# Altium footprint library micro-fujitsu.PCBLIB: 28 footprints (part 2 of 2)
Each footprint in its own frame and in the unit in brackets; x right, y up, seen from the top. Pads: shape width x height; smd on the part's side, far side on the other; paste and mask are expansions set on the pad; w line width, h text height; cw(c..) or ccw(c..) is an arc to the next point about the centre after c.
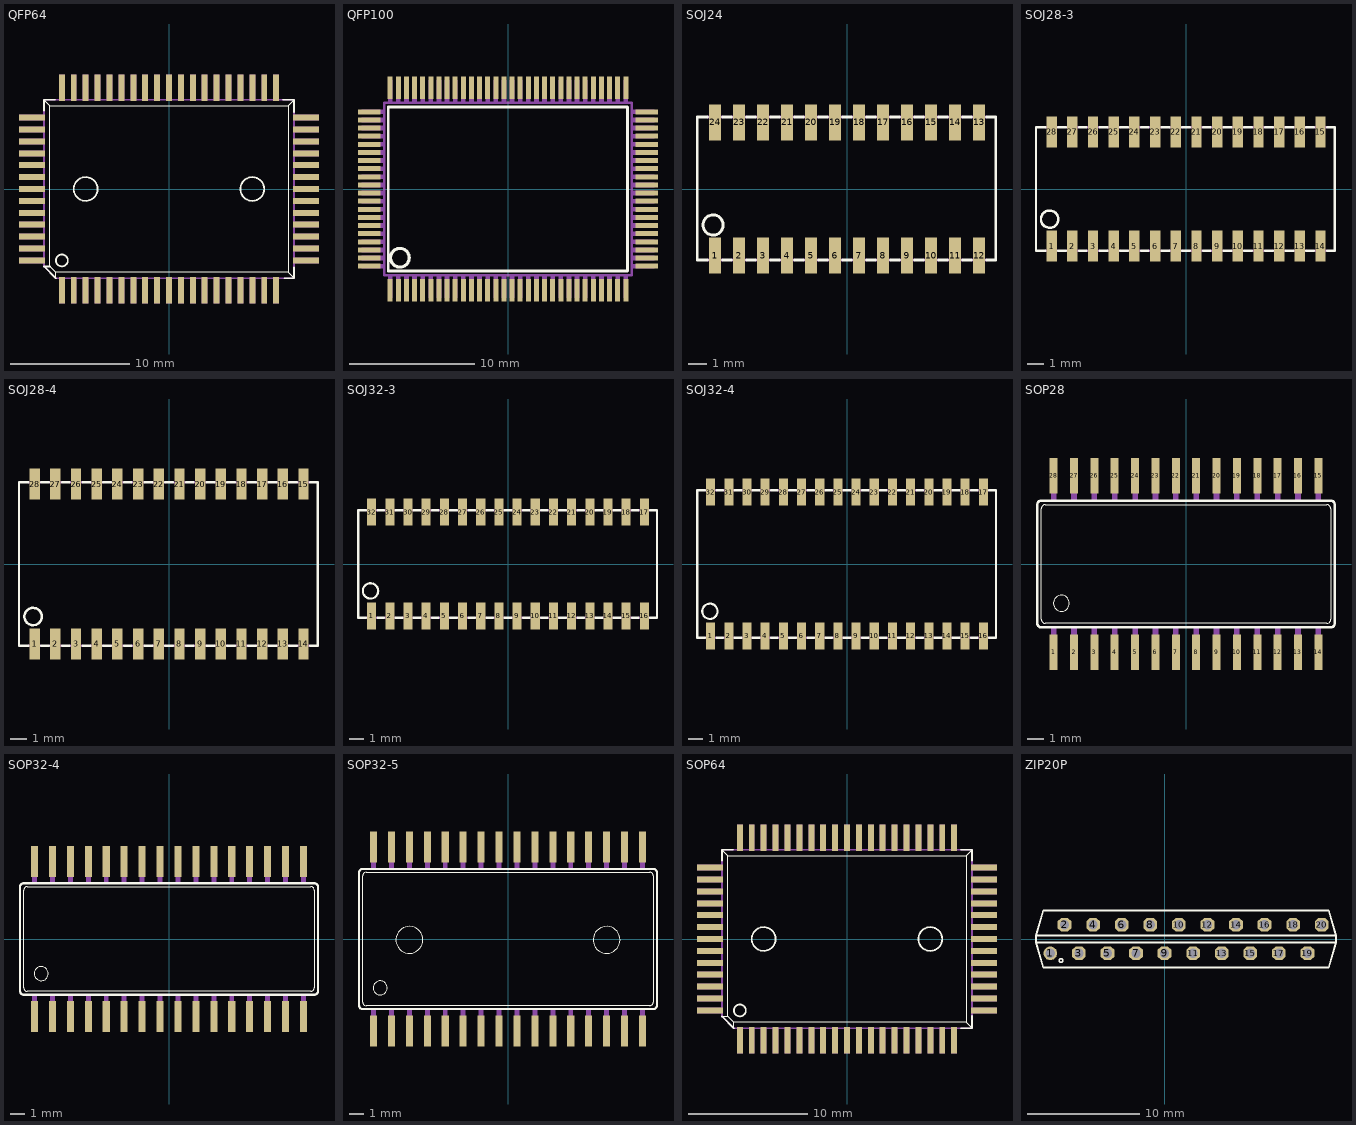
[diagram p1: the footprints below, top view; thin cyan lines are the x and y axes]

## QFP64 [mm]
pads (64):
  rect 0.5x2.2 smd: 1(-9,-8.5) 2(-8,-8.5) 3(-7,-8.5) 4(-6,-8.5) 5(-5,-8.5) 6(-4,-8.5) 7(-3,-8.5) 8(-2,-8.5) 9(-1,-8.5) 10(0,-8.5) 11(1,-8.5) 12(2,-8.5) 13(3,-8.5) 14(4,-8.5) 15(5,-8.5) 16(6,-8.5) 17(7,-8.5) 18(8,-8.5) 19(9,-8.5) 33(9,8.5) 34(8,8.5) 35(7,8.5) 36(6,8.5) 37(5,8.5) 38(4,8.5) 39(3,8.5) 40(2,8.5) 41(1,8.5) 42(0,8.5) 43(-1,8.5) 44(-2,8.5) 45(-3,8.5) 46(-4,8.5) 47(-5,8.5) 48(-6,8.5) 49(-7,8.5) 50(-8,8.5) 51(-9,8.5)
  rect 2.2x0.5 smd: 20(11.5,-6) 21(11.5,-5) 22(11.5,-4) 23(11.5,-3) 24(11.5,-2) 25(11.5,-1) 26(11.5,0) 27(11.5,1) 28(11.5,2) 29(11.5,3) 30(11.5,4) 31(11.5,5) 32(11.5,6) 52(-11.5,6) 53(-11.5,5) 54(-11.5,4) 55(-11.5,3) 56(-11.5,2) 57(-11.5,1) 58(-11.5,0) 59(-11.5,-1) 60(-11.5,-2) 61(-11.5,-3) 62(-11.5,-4) 63(-11.5,-5) 64(-11.5,-6)
Top Overlay:
  circle w0.152: c-9,-6 r0.5
  circle w0.152: c7,0 r1
  circle w0.152: c-7,0 r1
  lines w0.051: -10.5,7.5 -10,7 ; -9.5,-7.5 -9.5,-7 ; 10.5,-7.5 10,-7 ; 10.5,7.5 10,7 ; -10,7 10,7 ; -10,7 -10,-6.5 -9.5,-7 ; -9.5,-7 10,-7 ; 10,-7 10,7
  lines w0.152: -10.5,6.581 -10.5,7.5 -9.566,7.5 ; -10,-6.5 -10.5,-6.5 -9.5,-7.5 ; 9.566,7.5 10.5,7.5 10.5,6.47 ; 9.677,-7.5 10.5,-7.5 10.5,-6.597
Mechanical 16:
  rectangle: -9.25,7.55 -8.75,9.6
  rectangle: -8.25,7.55 -7.75,9.6
  rectangle: -7.25,7.55 -6.75,9.6
  rectangle: -6.25,7.55 -5.75,9.6
  rectangle: -5.25,7.55 -4.75,9.6
  rectangle: -4.25,7.55 -3.75,9.6
  rectangle: -3.25,7.55 -2.75,9.6
  rectangle: -2.25,7.55 -1.75,9.6
  rectangle: -1.25,7.55 -0.75,9.6
  rectangle: -0.25,7.55 0.25,9.6
  rectangle: 0.75,7.55 1.25,9.6
  rectangle: 1.75,7.55 2.25,9.6
  rectangle: 2.75,7.55 3.25,9.6
  rectangle: 3.75,7.55 4.25,9.6
  rectangle: 4.75,7.55 5.25,9.6
  rectangle: 5.75,7.55 6.25,9.6
  rectangle: 6.75,7.55 7.25,9.6
  rectangle: 7.75,7.55 8.25,9.6
  rectangle: 8.75,7.55 9.25,9.6
  rectangle: 10.55,4.75 12.6,5.25
  rectangle: 10.55,5.75 12.6,6.25
  rectangle: 10.55,3.75 12.6,4.25
  rectangle: 10.55,2.75 12.6,3.25
  rectangle: 10.55,1.75 12.6,2.25
  rectangle: 10.55,0.75 12.6,1.25
  rectangle: 10.55,-0.25 12.6,0.25
  rectangle: 10.55,-1.25 12.6,-0.75
  rectangle: 10.55,-2.25 12.6,-1.75
  rectangle: 10.55,-3.25 12.6,-2.75
  rectangle: 10.55,-4.25 12.6,-3.75
  rectangle: 10.55,-5.25 12.6,-4.75
  rectangle: 10.55,-6.25 12.6,-5.75
  rectangle: 8.75,-9.6 9.25,-7.55
  rectangle: 7.75,-9.6 8.25,-7.55
  rectangle: 6.75,-9.6 7.25,-7.55
  rectangle: 5.75,-9.6 6.25,-7.55
  rectangle: 4.75,-9.6 5.25,-7.55
  rectangle: 3.75,-9.6 4.25,-7.55
  rectangle: 2.75,-9.6 3.25,-7.55
  rectangle: 1.75,-9.6 2.25,-7.55
  rectangle: 0.75,-9.6 1.25,-7.55
  rectangle: -0.25,-9.6 0.25,-7.55
  rectangle: -1.25,-9.6 -0.75,-7.55
  rectangle: -2.25,-9.6 -1.75,-7.55
  rectangle: -3.25,-9.6 -2.75,-7.55
  rectangle: -4.25,-9.6 -3.75,-7.55
  rectangle: -5.25,-9.6 -4.75,-7.55
  rectangle: -6.25,-9.6 -5.75,-7.55
  rectangle: -7.25,-9.6 -6.75,-7.55
  rectangle: -8.25,-9.6 -7.75,-7.55
  rectangle: -12.6,5.75 -10.55,6.25
  rectangle: -12.6,4.75 -10.55,5.25
  rectangle: -12.6,3.75 -10.55,4.25
  rectangle: -12.6,2.75 -10.55,3.25
  rectangle: -12.6,1.75 -10.55,2.25
  rectangle: -12.6,0.75 -10.55,1.25
  rectangle: -12.6,-0.25 -10.55,0.25
  rectangle: -12.6,-1.25 -10.55,-0.75
  rectangle: -12.6,-2.25 -10.55,-1.75
  rectangle: -12.6,-3.25 -10.55,-2.75
  rectangle: -12.6,-4.25 -10.55,-3.75
  rectangle: -12.6,-5.25 -10.55,-4.75
  rectangle: -12.6,-6.25 -10.55,-5.75
  rectangle: -9.25,-9.6 -8.75,-7.55
  lines w0.051: -10.5,-6.5 -10,-6.5 ; -9.5,-7.5 -9.5,-7
  lines w0.152: -10.5,-6.5 -9.5,-7.5 10.5,-7.5 10.5,7.5 -10.5,7.5 -10.5,-6.5

## QFP100 [mm]
pads (100):
  rect 0.4x1.8 smd: 1(-9.425,-8.1) 2(-8.775,-8.1) 3(-8.125,-8.1) 4(-7.475,-8.1) 5(-6.825,-8.1) 6(-6.175,-8.1) 7(-5.525,-8.1) 8(-4.875,-8.1) 9(-4.225,-8.1) 10(-3.575,-8.1) 11(-2.925,-8.1) 12(-2.275,-8.1) 13(-1.625,-8.1) 14(-0.975,-8.1) 15(-0.325,-8.1) 16(0.325,-8.1) 17(0.975,-8.1) 18(1.625,-8.1) 19(2.275,-8.1) 20(2.925,-8.1) 21(3.575,-8.1) 22(4.225,-8.1) 23(4.875,-8.1) 24(5.525,-8.1) 25(6.175,-8.1) 26(6.825,-8.1) 27(7.475,-8.1) 28(8.125,-8.1) 29(8.775,-8.1) 30(9.425,-8.1) 51(9.425,8.1) 52(8.775,8.1) 53(8.125,8.1) 54(7.475,8.1) 55(6.825,8.1) 56(6.175,8.1) 57(5.525,8.1) 58(4.875,8.1) 59(4.225,8.1) 60(3.575,8.1) 61(2.925,8.1) 62(2.275,8.1) 63(1.625,8.1) 64(0.975,8.1) 65(0.325,8.1) 66(-0.325,8.1) 67(-0.975,8.1) 68(-1.625,8.1) 69(-2.275,8.1) 70(-2.925,8.1) 71(-3.575,8.1) 72(-4.225,8.1) 73(-4.875,8.1) 74(-5.525,8.1) 75(-6.175,8.1) 76(-6.825,8.1) 77(-7.475,8.1) 78(-8.125,8.1) 79(-8.775,8.1) 80(-9.425,8.1)
  rect 1.8x0.4 smd: 31(11.1,-6.175) 32(11.1,-5.525) 33(11.1,-4.875) 34(11.1,-4.225) 35(11.1,-3.575) 36(11.1,-2.925) 37(11.1,-2.275) 38(11.1,-1.625) 39(11.1,-0.975) 40(11.1,-0.325) 41(11.1,0.325) 42(11.1,0.975) 43(11.1,1.625) 44(11.1,2.275) 45(11.1,2.925) 46(11.1,3.575) 47(11.1,4.225) 48(11.1,4.875) 49(11.1,5.525) 50(11.1,6.175) 81(-11.1,6.175) 82(-11.1,5.525) 83(-11.1,4.875) 84(-11.1,4.225) 85(-11.1,3.575) 86(-11.1,2.925) 87(-11.1,2.275) 88(-11.1,1.625) 89(-11.1,0.975) 90(-11.1,0.325) 91(-11.1,-0.325) 92(-11.1,-0.975) 93(-11.1,-1.625) 94(-11.1,-2.275) 95(-11.1,-2.925) 96(-11.1,-3.575) 97(-11.1,-4.225) 98(-11.1,-4.875) 99(-11.1,-5.525) 100(-11.1,-6.175)
Top Overlay:
  circle w0.254: c-8.65,-5.5 r0.75
  lines w0.203: -9.57,-6.56 9.56,-6.56 9.56,6.56 -9.57,6.56 -9.57,-6.56
Mechanical 16:
  rectangle: -9.615,-8.72 -9.235,-6.95
  rectangle: 9.95,-6.365 11.72,-5.985
  rectangle: -8.965,-8.72 -8.585,-6.95
  rectangle: -8.315,-8.72 -7.935,-6.95
  rectangle: -7.665,-8.72 -7.285,-6.95
  rectangle: -7.015,-8.72 -6.635,-6.95
  rectangle: -6.365,-8.72 -5.985,-6.95
  rectangle: -5.715,-8.72 -5.335,-6.95
  rectangle: -5.065,-8.72 -4.685,-6.95
  rectangle: -4.415,-8.72 -4.035,-6.95
  rectangle: -3.765,-8.72 -3.385,-6.95
  rectangle: -3.115,-8.72 -2.735,-6.95
  rectangle: -2.465,-8.72 -2.085,-6.95
  rectangle: -1.815,-8.72 -1.435,-6.95
  rectangle: -1.165,-8.72 -0.785,-6.95
  rectangle: -0.515,-8.72 -0.135,-6.95
  rectangle: 0.135,-8.72 0.515,-6.95
  rectangle: 0.785,-8.72 1.165,-6.95
  rectangle: 1.435,-8.72 1.815,-6.95
  rectangle: 2.085,-8.72 2.465,-6.95
  rectangle: 2.735,-8.72 3.115,-6.95
  rectangle: 3.385,-8.72 3.765,-6.95
  rectangle: 4.035,-8.72 4.415,-6.95
  rectangle: 4.685,-8.72 5.065,-6.95
  rectangle: 5.335,-8.72 5.715,-6.95
  rectangle: 5.985,-8.72 6.365,-6.95
  rectangle: 6.635,-8.72 7.015,-6.95
  rectangle: 7.285,-8.72 7.665,-6.95
  rectangle: 7.935,-8.72 8.315,-6.95
  rectangle: 8.585,-8.72 8.965,-6.95
  rectangle: 9.235,-8.72 9.615,-6.95
  rectangle: 9.95,-5.715 11.72,-5.335
  rectangle: 9.95,-5.065 11.72,-4.685
  rectangle: 9.95,-4.415 11.72,-4.035
  rectangle: 9.95,-3.765 11.72,-3.385
  rectangle: 9.95,-3.115 11.72,-2.735
  rectangle: 9.95,-2.465 11.72,-2.085
  rectangle: 9.95,-1.815 11.72,-1.435
  rectangle: 9.95,-1.165 11.72,-0.785
  rectangle: 9.95,-0.515 11.72,-0.135
  rectangle: 9.95,0.135 11.72,0.515
  rectangle: 9.95,0.785 11.72,1.165
  rectangle: 9.95,1.435 11.72,1.815
  rectangle: 9.95,2.085 11.72,2.465
  rectangle: 9.95,2.735 11.72,3.115
  rectangle: 9.95,3.385 11.72,3.765
  rectangle: 9.95,4.035 11.72,4.415
  rectangle: 9.95,4.685 11.72,5.065
  rectangle: 9.95,5.335 11.72,5.715
  rectangle: 9.95,5.985 11.72,6.365
  rectangle: 9.235,6.95 9.615,8.72
  rectangle: 8.585,6.95 8.965,8.72
  rectangle: 7.935,6.95 8.315,8.72
  rectangle: 7.285,6.95 7.665,8.72
  rectangle: 6.635,6.95 7.015,8.72
  rectangle: 5.985,6.95 6.365,8.72
  rectangle: 5.335,6.95 5.715,8.72
  rectangle: 4.685,6.95 5.065,8.72
  rectangle: 4.035,6.95 4.415,8.72
  rectangle: 3.385,6.95 3.765,8.72
  rectangle: 2.735,6.95 3.115,8.72
  rectangle: 2.085,6.95 2.465,8.72
  rectangle: 1.435,6.95 1.815,8.72
  rectangle: 0.785,6.95 1.165,8.72
  rectangle: 0.135,6.95 0.515,8.72
  rectangle: -0.515,6.95 -0.135,8.72
  rectangle: -1.165,6.95 -0.785,8.72
  rectangle: -1.815,6.95 -1.435,8.72
  rectangle: -2.465,6.95 -2.085,8.72
  rectangle: -3.115,6.95 -2.735,8.72
  rectangle: -3.765,6.95 -3.385,8.72
  rectangle: -4.415,6.95 -4.035,8.72
  rectangle: -5.065,6.95 -4.685,8.72
  rectangle: -5.715,6.95 -5.335,8.72
  rectangle: -6.365,6.95 -5.985,8.72
  rectangle: -7.015,6.95 -6.635,8.72
  rectangle: -7.665,6.95 -7.285,8.72
  rectangle: -8.315,6.95 -7.935,8.72
  rectangle: -8.965,6.95 -8.585,8.72
  rectangle: -9.615,6.95 -9.235,8.72
  rectangle: -11.72,5.985 -9.95,6.365
  rectangle: -11.72,5.335 -9.95,5.715
  rectangle: -11.72,4.685 -9.95,5.065
  rectangle: -11.72,4.035 -9.95,4.415
  rectangle: -11.72,3.385 -9.95,3.765
  rectangle: -11.72,2.735 -9.95,3.115
  rectangle: -11.72,2.085 -9.95,2.465
  rectangle: -11.72,1.435 -9.95,1.815
  rectangle: -11.72,0.785 -9.95,1.165
  rectangle: -11.72,0.135 -9.95,0.515
  rectangle: -11.72,-0.515 -9.95,-0.135
  rectangle: -11.72,-1.165 -9.95,-0.785
  rectangle: -11.72,-1.815 -9.95,-1.435
  rectangle: -11.72,-2.465 -9.95,-2.085
  rectangle: -11.72,-3.115 -9.95,-2.735
  rectangle: -11.72,-3.765 -9.95,-3.385
  rectangle: -11.72,-4.415 -9.95,-4.035
  rectangle: -11.72,-5.065 -9.95,-4.685
  rectangle: -11.72,-5.715 -9.95,-5.335
  rectangle: -11.72,-6.365 -9.95,-5.985
  lines w0.203: -9.9,-6.9 9.9,-6.9 9.9,6.9 -9.9,6.9 -9.9,-6.9

## SOJ24 [mil]
pads (24):
  rect 25x75 smd: 1(-275,-139) 2(-225,-139) 3(-175,-139) 4(-125,-139) 5(-75,-139) 6(-25,-139) 7(25,-139) 8(75,-139) 9(125,-139) 10(175,-139) 11(225,-139) 12(275,-139) 13(275,139) 14(225,139) 15(175,139) 16(125,139) 17(75,139) 18(25,139) 19(-25,139) 20(-75,139) 21(-125,139) 22(-175,139) 23(-225,139) 24(-275,139)
Top Overlay:
  circle w6: c-279,-75 r21
  lines w6: -291,-148 -312,-148 -312,150 -291,150 ; -259,-148 -241,-148 ; -259,150 -241,150 ; -209,-148 -191,-148 ; -209,150 -191,150 ; -159,-148 -141,-148 ; -159,150 -141,150 ; -109,-148 -91,-148 ; -109,150 -91,150 ; -59,-148 -41,-148 ; -59,150 -41,150 ; -9,-148 9,-148 ; -9,150 9,150 ; 41,-148 59,-148 ; 41,150 59,150 ; 91,-148 109,-148 ; 91,150 109,150 ; 141,-148 159,-148 ; 141,150 159,150 ; 191,-148 209,-148 ; 191,150 209,150 ; 241,-148 259,-148 ; 241,150 259,150 ; 291,-148 310,-148 310,150 291,150
Mechanical 16:
  rectangle: 265,152 285,172
  rectangle: 268,122 282,152
  rectangle: 215,152 235,172
  rectangle: 218,122 232,152
  rectangle: 165,152 185,172
  rectangle: 168,122 182,152
  rectangle: 115,152 135,172
  rectangle: 118,122 132,152
  rectangle: 65,152 85,172
  rectangle: 68,122 82,152
  rectangle: 15,152 35,172
  rectangle: 18,122 32,152
  rectangle: -35,152 -15,172
  rectangle: -32,122 -18,152
  rectangle: -85,152 -65,172
  rectangle: -82,122 -68,152
  rectangle: -135,152 -115,172
  rectangle: -132,122 -118,152
  rectangle: -185,152 -165,172
  rectangle: -182,122 -168,152
  rectangle: -235,152 -215,172
  rectangle: -232,122 -218,152
  rectangle: -285,152 -265,172
  rectangle: -282,122 -268,152
  rectangle: -285,-170 -265,-150
  rectangle: -282,-150 -268,-120
  rectangle: -235,-170 -215,-150
  rectangle: -232,-150 -218,-120
  rectangle: -185,-170 -165,-150
  rectangle: -182,-150 -168,-120
  rectangle: -135,-170 -115,-150
  rectangle: -132,-150 -118,-120
  rectangle: -85,-170 -65,-150
  rectangle: -82,-150 -68,-120
  rectangle: -35,-170 -15,-150
  rectangle: -32,-150 -18,-120
  rectangle: 15,-170 35,-150
  rectangle: 18,-150 32,-120
  rectangle: 65,-170 85,-150
  rectangle: 68,-150 82,-120
  rectangle: 115,-170 135,-150
  rectangle: 118,-150 132,-120
  rectangle: 165,-170 185,-150
  rectangle: 168,-150 182,-120
  rectangle: 215,-170 235,-150
  rectangle: 218,-150 232,-120
  rectangle: 265,-170 285,-150
  rectangle: 268,-150 282,-120
  lines w6: -290,150 -261,150 ; -289,-148 -261,-148 ; -239,-148 -211,-148 ; -239,150 -211,150 ; -189,-148 -161,-148 ; -189,150 -161,150 ; -139,-148 -111,-148 ; -139,150 -111,150 ; -89,-148 -61,-148 ; -89,150 -61,150 ; -39,-148 -11,-148 ; -39,150 -11,150 ; 11,-148 39,-148 ; 11,150 39,150 ; 61,-148 89,-148 ; 61,150 89,150 ; 111,-148 139,-148 ; 111,150 139,150 ; 161,-148 189,-148 ; 161,150 189,150 ; 211,-148 239,-148 ; 211,150 239,150 ; 261,-148 289,-148 ; 261,150 289,150

## SOJ28-3 [mil]
pads (28):
  rect 25x75 smd: 1(-325,-138) 2(-275,-138) 3(-225,-138) 4(-175,-138) 5(-125,-138) 6(-75,-138) 7(-25,-138) 8(25,-138) 9(75,-138) 10(125,-138) 11(175,-138) 12(225,-138) 13(275,-138) 14(325,-138) 15(325,138) 16(275,138) 17(225,138) 18(175,138) 19(125,138) 20(75,138) 21(25,138) 22(-25,138) 23(-75,138) 24(-125,138) 25(-175,138) 26(-225,138) 27(-275,138) 28(-325,138)
Top Overlay:
  circle w6: c-330,-73 r21
  lines w6: -341,-149 -363,-149 -363,149 -341,149 ; -309,-149 -291,-149 ; -309,149 -291,149 ; -259,-149 -241,-149 ; -259,149 -241,149 ; -209,-149 -191,-149 ; -209,149 -191,149 ; -159,-149 -141,-149 ; -159,149 -141,149 ; -109,-149 -91,-149 ; -109,149 -91,149 ; -59,-149 -41,-149 ; -59,149 -41,149 ; -9,-149 9,-149 ; -9,149 9,149 ; 41,-149 59,-149 ; 41,149 59,149 ; 91,-149 109,-149 ; 91,149 109,149 ; 141,-149 159,-149 ; 141,149 159,149 ; 191,-149 209,-149 ; 191,149 209,149 ; 241,-149 259,-149 ; 241,149 259,149 ; 291,-149 309,-149 ; 291,149 309,149 ; 341,-149 359,-149 359,149 341,149
Mechanical 16:
  rectangle: 315,151 335,171
  rectangle: 318,121 332,151
  rectangle: 315,-171 335,-151
  rectangle: 318,-151 332,-121
  rectangle: 265,-171 285,-151
  rectangle: 268,-151 282,-121
  rectangle: 215,-171 235,-151
  rectangle: 218,-151 232,-121
  rectangle: 165,-171 185,-151
  rectangle: 168,-151 182,-121
  rectangle: 115,-171 135,-151
  rectangle: 118,-151 132,-121
  rectangle: 65,-171 85,-151
  rectangle: 68,-151 82,-121
  rectangle: 15,-171 35,-151
  rectangle: 18,-151 32,-121
  rectangle: -35,-171 -15,-151
  rectangle: -32,-151 -18,-121
  rectangle: -85,-171 -65,-151
  rectangle: -82,-151 -68,-121
  rectangle: -135,-171 -115,-151
  rectangle: -132,-151 -118,-121
  rectangle: -185,-171 -165,-151
  rectangle: -182,-151 -168,-121
  rectangle: -235,-171 -215,-151
  rectangle: -232,-151 -218,-121
  rectangle: -285,-171 -265,-151
  rectangle: -282,-151 -268,-121
  rectangle: -335,-171 -315,-151
  rectangle: -332,-151 -318,-121
  rectangle: -335,151 -315,171
  rectangle: -332,121 -318,151
  rectangle: -285,151 -265,171
  rectangle: -282,121 -268,151
  rectangle: -235,151 -215,171
  rectangle: -232,121 -218,151
  rectangle: -185,151 -165,171
  rectangle: -182,121 -168,151
  rectangle: -135,151 -115,171
  rectangle: -132,121 -118,151
  rectangle: -85,151 -65,171
  rectangle: -82,121 -68,151
  rectangle: -35,151 -15,171
  rectangle: -32,121 -18,151
  rectangle: 15,151 35,171
  rectangle: 18,121 32,151
  rectangle: 65,151 85,171
  rectangle: 68,121 82,151
  rectangle: 115,151 135,171
  rectangle: 118,121 132,151
  rectangle: 165,151 185,171
  rectangle: 168,121 182,151
  rectangle: 215,151 235,171
  rectangle: 218,121 232,151
  rectangle: 265,151 285,171
  rectangle: 268,121 282,151
  lines w6: -339,-149 -311,-149 ; -339,149 -311,149 ; -289,-149 -261,-149 ; -289,149 -261,149 ; -239,-149 -211,-149 ; -239,149 -211,149 ; -189,-149 -161,-149 ; -189,149 -161,149 ; -139,-149 -111,-149 ; -139,149 -111,149 ; -89,-149 -61,-149 ; -89,149 -61,149 ; -39,-149 -11,-149 ; -39,149 -11,149 ; 11,-149 39,-149 ; 11,149 39,149 ; 61,-149 89,-149 ; 61,149 89,149 ; 111,-149 139,-149 ; 111,149 139,149 ; 161,-149 189,-149 ; 161,149 189,149 ; 211,-149 239,-149 ; 211,149 239,149 ; 261,-149 289,-149 ; 261,149 289,149 ; 311,-149 339,-149 ; 311,149 339,149

## SOJ28-4 [mil]
pads (28):
  rect 25x75 smd: 1(-325,-193) 2(-275,-193) 3(-225,-193) 4(-175,-193) 5(-125,-193) 6(-75,-193) 7(-25,-193) 8(25,-193) 9(75,-193) 10(125,-193) 11(175,-193) 12(225,-193) 13(275,-193) 14(325,-193) 15(325,193) 16(275,193) 17(225,193) 18(175,193) 19(125,193) 20(75,193) 21(25,193) 22(-25,193) 23(-75,193) 24(-125,193) 25(-175,193) 26(-225,193) 27(-275,193) 28(-325,193)
Top Overlay:
  circle w6: c-329,-127 r21
  lines w6: -341,-198 -363,-198 -363,198 -341,198 ; -309,-198 -291,-198 ; -309,198 -291,198 ; -259,-198 -241,-198 ; -259,198 -241,198 ; -209,-198 -191,-198 ; -209,198 -191,198 ; -159,-198 -141,-198 ; -159,198 -141,198 ; -109,-198 -91,-198 ; -109,198 -91,198 ; -59,-198 -41,-198 ; -59,198 -41,198 ; -9,-198 9,-198 ; -9,198 9,198 ; 41,-198 59,-198 ; 41,198 59,198 ; 91,-198 109,-198 ; 91,198 109,198 ; 141,-198 159,-198 ; 141,198 159,198 ; 191,-198 209,-198 ; 191,198 209,198 ; 241,-198 259,-198 ; 241,198 259,198 ; 291,-198 309,-198 ; 291,198 309,198 ; 341,-198 359,-198 359,198 341,198
Mechanical 16:
  rectangle: 315,200 335,220
  rectangle: 318,170 332,200
  rectangle: 315,-220 335,-200
  rectangle: 318,-200 332,-170
  rectangle: 265,200 285,220
  rectangle: 268,170 282,200
  rectangle: 215,200 235,220
  rectangle: 218,170 232,200
  rectangle: 165,200 185,220
  rectangle: 168,170 182,200
  rectangle: 115,200 135,220
  rectangle: 118,170 132,200
  rectangle: 65,200 85,220
  rectangle: 68,170 82,200
  rectangle: 15,200 35,220
  rectangle: 18,170 32,200
  rectangle: -35,200 -15,220
  rectangle: -32,170 -18,200
  rectangle: -185,200 -165,220
  rectangle: -182,170 -168,200
  rectangle: -135,200 -115,220
  rectangle: -132,170 -118,200
  rectangle: -85,200 -65,220
  rectangle: -82,170 -68,200
  rectangle: -235,200 -215,220
  rectangle: -232,170 -218,200
  rectangle: -285,200 -265,220
  rectangle: -282,170 -268,200
  rectangle: -335,200 -315,220
  rectangle: -332,170 -318,200
  rectangle: -335,-220 -315,-200
  rectangle: -332,-200 -318,-170
  rectangle: -285,-220 -265,-200
  rectangle: -282,-200 -268,-170
  rectangle: -235,-220 -215,-200
  rectangle: -232,-200 -218,-170
  rectangle: -185,-220 -165,-200
  rectangle: -182,-200 -168,-170
  rectangle: -135,-220 -115,-200
  rectangle: -132,-200 -118,-170
  rectangle: -85,-220 -65,-200
  rectangle: -82,-200 -68,-170
  rectangle: -35,-220 -15,-200
  rectangle: -32,-200 -18,-170
  rectangle: 15,-220 35,-200
  rectangle: 18,-200 32,-170
  rectangle: 65,-220 85,-200
  rectangle: 68,-200 82,-170
  rectangle: 115,-220 135,-200
  rectangle: 118,-200 132,-170
  rectangle: 165,-220 185,-200
  rectangle: 168,-200 182,-170
  rectangle: 215,-220 235,-200
  rectangle: 218,-200 232,-170
  rectangle: 265,-220 285,-200
  rectangle: 268,-200 282,-170
  lines w6: -339,-198 -311,-198 ; -339,198 -311,198 ; -289,-198 -261,-198 ; -289,198 -261,198 ; -239,-198 -211,-198 ; -239,198 -211,198 ; -189,-198 -161,-198 ; -189,198 -161,198 ; -139,-198 -111,-198 ; -139,198 -111,198 ; -89,-198 -61,-198 ; -89,198 -61,198 ; -39,-198 -11,-198 ; -39,198 -11,198 ; 11,-198 39,-198 ; 11,198 39,198 ; 61,-198 89,-198 ; 61,198 89,198 ; 111,-198 139,-198 ; 111,198 139,198 ; 161,-198 189,-198 ; 161,198 189,198 ; 211,-198 239,-198 ; 211,198 239,198 ; 261,-198 289,-198 ; 261,198 289,198 ; 311,-198 339,-198 ; 311,198 339,198

## SOJ32-3 [mil]
pads (32):
  rect 25x75 smd: 1(-375,-143) 2(-325,-143) 3(-275,-143) 4(-225,-143) 5(-175,-143) 6(-125,-143) 7(-75,-143) 8(-25,-143) 9(25,-143) 10(75,-143) 11(125,-143) 12(175,-143) 13(225,-143) 14(275,-143) 15(325,-143) 16(375,-143) 17(375,143) 18(325,143) 19(275,143) 20(225,143) 21(175,143) 22(125,143) 23(75,143) 24(25,143) 25(-25,143) 26(-75,143) 27(-125,143) 28(-175,143) 29(-225,143) 30(-275,143) 31(-325,143) 32(-375,143)
Top Overlay:
  circle w6: c-378,-74 r21
  lines w6: -391,-148 -412,-148 -412,148 -391,148 ; -359,-148 -341,-148 ; -359,148 -341,148 ; -309,-148 -291,-148 ; -309,148 -291,148 ; -259,-148 -241,-148 ; -259,148 -241,148 ; -209,-148 -191,-148 ; -209,148 -191,148 ; -159,-148 -141,-148 ; -159,148 -141,148 ; -109,-148 -91,-148 ; -109,148 -91,148 ; -59,-148 -41,-148 ; -59,148 -41,148 ; -9,-148 9,-148 ; -9,148 9,148 ; 41,-148 59,-148 ; 41,148 59,148 ; 91,-148 109,-148 ; 91,148 109,148 ; 141,-148 159,-148 ; 141,148 159,148 ; 191,-148 209,-148 ; 191,148 209,148 ; 241,-148 259,-148 ; 241,148 259,148 ; 291,-148 309,-148 ; 291,148 309,148 ; 341,-148 359,-148 ; 341,148 359,148 ; 391,-148 410,-148 410,148 391,148
Mechanical 16:
  rectangle: 365,150 385,170
  rectangle: 368,120 382,150
  rectangle: 365,-170 385,-150
  rectangle: 368,-150 382,-120
  rectangle: 315,150 335,170
  rectangle: 318,120 332,150
  rectangle: 265,150 285,170
  rectangle: 268,120 282,150
  rectangle: 215,150 235,170
  rectangle: 218,120 232,150
  rectangle: 165,150 185,170
  rectangle: 168,120 182,150
  rectangle: 115,150 135,170
  rectangle: 118,120 132,150
  rectangle: 65,150 85,170
  rectangle: 68,120 82,150
  rectangle: 15,150 35,170
  rectangle: 18,120 32,150
  rectangle: -35,150 -15,170
  rectangle: -32,120 -18,150
  rectangle: -85,150 -65,170
  rectangle: -82,120 -68,150
  rectangle: -135,150 -115,170
  rectangle: -132,120 -118,150
  rectangle: -185,150 -165,170
  rectangle: -182,120 -168,150
  rectangle: -385,150 -365,170
  rectangle: -382,120 -368,150
  rectangle: -335,150 -315,170
  rectangle: -332,120 -318,150
  rectangle: -285,150 -265,170
  rectangle: -282,120 -268,150
  rectangle: -235,150 -215,170
  rectangle: -232,120 -218,150
  rectangle: -385,-170 -365,-150
  rectangle: -382,-150 -368,-120
  rectangle: -335,-170 -315,-150
  rectangle: -332,-150 -318,-120
  rectangle: -285,-170 -265,-150
  rectangle: -282,-150 -268,-120
  rectangle: -235,-170 -215,-150
  rectangle: -232,-150 -218,-120
  rectangle: -185,-170 -165,-150
  rectangle: -182,-150 -168,-120
  rectangle: -135,-170 -115,-150
  rectangle: -132,-150 -118,-120
  rectangle: -85,-170 -65,-150
  rectangle: -82,-150 -68,-120
  rectangle: -35,-170 -15,-150
  rectangle: -32,-150 -18,-120
  rectangle: 15,-170 35,-150
  rectangle: 18,-150 32,-120
  rectangle: 65,-170 85,-150
  rectangle: 68,-150 82,-120
  rectangle: 115,-170 135,-150
  rectangle: 118,-150 132,-120
  rectangle: 165,-170 185,-150
  rectangle: 168,-150 182,-120
  rectangle: 215,-170 235,-150
  rectangle: 218,-150 232,-120
  rectangle: 265,-170 285,-150
  rectangle: 268,-150 282,-120
  rectangle: 315,-170 335,-150
  rectangle: 318,-150 332,-120
  lines w6: -389,-148 -361,-148 ; -389,148 -361,148 ; -339,-148 -311,-148 ; -339,148 -311,148 ; -289,-148 -261,-148 ; -289,148 -261,148 ; -239,-148 -211,-148 ; -239,148 -211,148 ; -189,-148 -161,-148 ; -189,148 -161,148 ; -139,-148 -111,-148 ; -139,148 -111,148 ; -89,-148 -61,-148 ; -89,148 -61,148 ; -39,-148 -11,-148 ; -39,148 -11,148 ; 11,-148 39,-148 ; 11,148 39,148 ; 61,-148 89,-148 ; 61,148 89,148 ; 111,-148 139,-148 ; 111,148 139,148 ; 161,-148 189,-148 ; 161,148 189,148 ; 211,-148 239,-148 ; 211,148 239,148 ; 261,-148 289,-148 ; 261,148 289,148 ; 311,-148 339,-148 ; 311,148 339,148 ; 361,-148 389,-148 ; 361,148 389,148

## SOJ32-4 [mil]
pads (32):
  rect 25x75 smd: 1(-375,-198) 2(-325,-198) 3(-275,-198) 4(-225,-198) 5(-175,-198) 6(-125,-198) 7(-75,-198) 8(-25,-198) 9(25,-198) 10(75,-198) 11(125,-198) 12(175,-198) 13(225,-198) 14(275,-198) 15(325,-198) 16(375,-198) 17(375,198) 18(325,198) 19(275,198) 20(225,198) 21(175,198) 22(125,198) 23(75,198) 24(25,198) 25(-25,198) 26(-75,198) 27(-125,198) 28(-175,198) 29(-225,198) 30(-275,198) 31(-325,198) 32(-375,198)
Top Overlay:
  circle w6: c-377,-130 r21
  lines w6: -391,-203 -412,-203 -412,203 -391,203 ; -359,-203 -341,-203 ; -359,203 -341,203 ; -309,-203 -291,-203 ; -309,203 -291,203 ; -259,-203 -241,-203 ; -259,203 -241,203 ; -209,-203 -191,-203 ; -209,203 -191,203 ; -159,-203 -141,-203 ; -159,203 -141,203 ; -109,-203 -91,-203 ; -109,203 -91,203 ; -59,-203 -41,-203 ; -59,203 -41,203 ; -9,-203 9,-203 ; -9,203 9,203 ; 41,-203 59,-203 ; 41,203 59,203 ; 91,-203 109,-203 ; 91,203 109,203 ; 141,-203 159,-203 ; 141,203 159,203 ; 191,-203 209,-203 ; 191,203 209,203 ; 241,-203 259,-203 ; 241,203 259,203 ; 291,-203 309,-203 ; 291,203 309,203 ; 341,-203 359,-203 ; 341,203 359,203 ; 391,-203 410,-203 410,203 391,203
Mechanical 16:
  rectangle: 365,205 385,225
  rectangle: 368,175 382,205
  rectangle: 365,-225 385,-205
  rectangle: 368,-205 382,-175
  rectangle: 315,205 335,225
  rectangle: 318,175 332,205
  rectangle: -35,205 -15,225
  rectangle: -32,175 -18,205
  rectangle: 15,205 35,225
  rectangle: 18,175 32,205
  rectangle: 65,205 85,225
  rectangle: 68,175 82,205
  rectangle: 115,205 135,225
  rectangle: 118,175 132,205
  rectangle: 165,205 185,225
  rectangle: 168,175 182,205
  rectangle: 215,205 235,225
  rectangle: 218,175 232,205
  rectangle: 265,205 285,225
  rectangle: 268,175 282,205
  rectangle: -385,205 -365,225
  rectangle: -382,175 -368,205
  rectangle: -335,205 -315,225
  rectangle: -332,175 -318,205
  rectangle: -285,205 -265,225
  rectangle: -282,175 -268,205
  rectangle: -235,205 -215,225
  rectangle: -232,175 -218,205
  rectangle: -185,205 -165,225
  rectangle: -182,175 -168,205
  rectangle: -135,205 -115,225
  rectangle: -132,175 -118,205
  rectangle: -85,205 -65,225
  rectangle: -82,175 -68,205
  rectangle: -385,-225 -365,-205
  rectangle: -382,-205 -368,-175
  rectangle: -335,-225 -315,-205
  rectangle: -332,-205 -318,-175
  rectangle: -285,-225 -265,-205
  rectangle: -282,-205 -268,-175
  rectangle: -235,-225 -215,-205
  rectangle: -232,-205 -218,-175
  rectangle: -185,-225 -165,-205
  rectangle: -182,-205 -168,-175
  rectangle: -135,-225 -115,-205
  rectangle: -132,-205 -118,-175
  rectangle: -85,-225 -65,-205
  rectangle: -82,-205 -68,-175
  rectangle: -35,-225 -15,-205
  rectangle: -32,-205 -18,-175
  rectangle: 15,-225 35,-205
  rectangle: 18,-205 32,-175
  rectangle: 65,-225 85,-205
  rectangle: 68,-205 82,-175
  rectangle: 115,-225 135,-205
  rectangle: 118,-205 132,-175
  rectangle: 165,-225 185,-205
  rectangle: 168,-205 182,-175
  rectangle: 215,-225 235,-205
  rectangle: 218,-205 232,-175
  rectangle: 265,-225 285,-205
  rectangle: 268,-205 282,-175
  rectangle: 315,-225 335,-205
  rectangle: 318,-205 332,-175
  lines w6: -389,-203 -361,-203 ; -389,203 -361,203 ; -339,-203 -311,-203 ; -339,203 -311,203 ; -289,-203 -261,-203 ; -289,203 -261,203 ; -239,-203 -211,-203 ; -239,203 -211,203 ; -189,-203 -161,-203 ; -189,203 -161,203 ; -139,-203 -111,-203 ; -139,203 -111,203 ; -89,-203 -61,-203 ; -89,203 -61,203 ; -39,-203 -11,-203 ; -39,203 -11,203 ; 11,-203 39,-203 ; 11,203 39,203 ; 61,-203 89,-203 ; 61,203 89,203 ; 111,-203 139,-203 ; 111,203 139,203 ; 161,-203 189,-203 ; 161,203 189,203 ; 211,-203 239,-203 ; 211,203 239,203 ; 261,-203 289,-203 ; 261,203 289,203 ; 311,-203 339,-203 ; 311,203 339,203 ; 361,-203 389,-203 ; 361,203 389,203

## SOP28 [mil]
pads (28):
  rect 19.69x86.61 smd: 1(-325,-216.54) 2(-275,-216.54) 3(-225,-216.54) 4(-175,-216.54) 5(-125,-216.54) 6(-75,-216.54) 7(-25,-216.54) 8(25,-216.54) 9(75,-216.54) 10(125,-216.54) 11(175,-216.54) 12(225,-216.54) 13(275,-216.54) 14(325,-216.54) 15(325,216.54) 16(275,216.54) 17(225,216.54) 18(175,216.54) 19(125,216.54) 20(75,216.54) 21(25,216.54) 22(-25,216.54) 23(-75,216.54) 24(-125,216.54) 25(-175,216.54) 26(-225,216.54) 27(-275,216.54) 28(-325,216.54)
Top Overlay:
  circle w2: c-306.1,-96.46 r19.69
  lines w2: -355.32,-135.83 -355.32,135.83 cw(c-345.48,135.82) -345.47,145.67 345.87,145.67 cw(c345.67,136.02) 355.32,136.22 355.32,-135.83 cw(c345.48,-135.82) 345.47,-145.67 -345.47,-145.67 cw(c-345.48,-135.82) -355.32,-135.83
  lines w6: -355.35,155.51 355.32,155.51 cw(c355.32,145.67) 365.16,145.67 365.16,-145.67 cw(c355.32,-145.67) 355.32,-155.51 -355.32,-155.51 cw(c-355.33,-145.67) -365.16,-146.06 -365.16,145.67 cw(c-355.32,145.67) -355.32,155.51
Mechanical 16:
  rectangle: -331.89,155.51 -318.11,236.22
  rectangle: -281.89,155.51 -268.11,236.22
  rectangle: -231.89,155.51 -218.11,236.22
  rectangle: -181.89,155.51 -168.11,236.22
  rectangle: -131.89,155.51 -118.11,236.22
  rectangle: -81.89,155.51 -68.11,236.22
  rectangle: -31.89,155.51 -18.11,236.22
  rectangle: 18.11,155.51 31.89,236.22
  rectangle: 68.11,155.51 81.89,236.22
  rectangle: 118.11,155.51 131.89,236.22
  rectangle: 168.11,155.51 181.89,236.22
  rectangle: 218.11,155.51 231.89,236.22
  rectangle: -331.89,-236.22 -318.11,-155.51
  rectangle: -281.89,-236.22 -268.11,-155.51
  rectangle: -231.89,-236.22 -218.11,-155.51
  rectangle: -181.89,-236.22 -168.11,-155.51
  rectangle: -131.89,-236.22 -118.11,-155.51
  rectangle: -81.89,-236.22 -68.11,-155.51
  rectangle: -31.89,-236.22 -18.11,-155.51
  rectangle: 18.11,-236.22 31.89,-155.51
  rectangle: 68.11,-236.22 81.89,-155.51
  rectangle: 118.11,-236.22 131.89,-155.51
  rectangle: 168.11,-236.22 181.89,-155.51
  rectangle: 218.11,-236.22 231.89,-155.51
  rectangle: 268.11,155.51 281.89,236.22
  rectangle: 318.11,155.51 331.89,236.22
  rectangle: 268.11,-236.22 281.89,-155.51
  rectangle: 318.11,-236.22 331.89,-155.51

## SOP32-4 [mil]
pads (32):
  rect 19.69x86.61 smd: 1(-375,-216.54) 2(-325,-216.54) 3(-275,-216.54) 4(-225,-216.54) 5(-175,-216.54) 6(-125,-216.54) 7(-75,-216.54) 8(-25,-216.54) 9(25,-216.54) 10(75,-216.54) 11(125,-216.54) 12(175,-216.54) 13(225,-216.54) 14(275,-216.54) 15(325,-216.54) 16(375,-216.54) 17(375,216.54) 18(325,216.54) 19(275,216.54) 20(225,216.54) 21(175,216.54) 22(125,216.54) 23(75,216.54) 24(25,216.54) 25(-25,216.54) 26(-75,216.54) 27(-125,216.54) 28(-175,216.54) 29(-225,216.54) 30(-275,216.54) 31(-325,216.54) 32(-375,216.54)
Top Overlay:
  circle w2: c-356.1,-96.46 r19.69
  lines w2: -405.32,-135.83 -405.32,135.83 cw(c-395.48,135.82) -395.47,145.67 395.87,145.67 cw(c395.67,136.02) 405.32,136.22 405.32,-135.83 cw(c395.48,-135.82) 395.47,-145.67 -395.47,-145.67 cw(c-395.48,-135.82) -405.32,-135.83
  lines w6: -405.35,155.51 405.32,155.51 cw(c405.32,145.67) 415.16,145.67 415.16,-145.67 cw(c405.32,-145.67) 405.32,-155.51 -405.32,-155.51 cw(c-405.33,-145.67) -415.16,-146.06 -415.16,145.67 cw(c-405.32,145.67) -405.32,155.51
Mechanical 16:
  rectangle: -281.89,155.51 -268.11,236.22
  rectangle: -231.89,155.51 -218.11,236.22
  rectangle: -181.89,155.51 -168.11,236.22
  rectangle: -131.89,155.51 -118.11,236.22
  rectangle: -81.89,155.51 -68.11,236.22
  rectangle: -31.89,155.51 -18.11,236.22
  rectangle: 18.11,155.51 31.89,236.22
  rectangle: 68.11,155.51 81.89,236.22
  rectangle: 118.11,155.51 131.89,236.22
  rectangle: 168.11,155.51 181.89,236.22
  rectangle: 218.11,155.51 231.89,236.22
  rectangle: 268.11,155.51 281.89,236.22
  rectangle: -281.89,-236.22 -268.11,-155.51
  rectangle: -231.89,-236.22 -218.11,-155.51
  rectangle: -181.89,-236.22 -168.11,-155.51
  rectangle: -131.89,-236.22 -118.11,-155.51
  rectangle: -81.89,-236.22 -68.11,-155.51
  rectangle: -31.89,-236.22 -18.11,-155.51
  rectangle: 18.11,-236.22 31.89,-155.51
  rectangle: 68.11,-236.22 81.89,-155.51
  rectangle: 118.11,-236.22 131.89,-155.51
  rectangle: 168.11,-236.22 181.89,-155.51
  rectangle: 218.11,-236.22 231.89,-155.51
  rectangle: 268.11,-236.22 281.89,-155.51
  rectangle: 318.11,155.51 331.89,236.22
  rectangle: 368.11,155.51 381.89,236.22
  rectangle: 318.11,-236.22 331.89,-155.51
  rectangle: 368.11,-236.22 381.89,-155.51
  rectangle: -381.89,155.51 -368.11,236.22
  rectangle: -331.89,155.51 -318.11,236.22
  rectangle: -381.89,-236.22 -368.11,-155.51
  rectangle: -331.89,-236.22 -318.11,-155.51

## SOP32-5 [mil]
pads (32):
  rect 19.69x86.61 smd: 1(-375,-256.54) 2(-325,-256.54) 3(-275,-256.54) 4(-225,-256.54) 5(-175,-256.54) 6(-125,-256.54) 7(-75,-256.54) 8(-25,-256.54) 9(25,-256.54) 10(75,-256.54) 11(125,-256.54) 12(175,-256.54) 13(225,-256.54) 14(275,-256.54) 15(325,-256.54) 16(375,-256.54) 17(375,256.54) 18(325,256.54) 19(275,256.54) 20(225,256.54) 21(175,256.54) 22(125,256.54) 23(75,256.54) 24(25,256.54) 25(-25,256.54) 26(-75,256.54) 27(-125,256.54) 28(-175,256.54) 29(-225,256.54) 30(-275,256.54) 31(-325,256.54) 32(-375,256.54)
Top Overlay:
  circle w2: c-356.1,-136.46 r19.69
  circle w2: c-275,-2.5 r37.5
  circle w2: c275,-2.5 r37.5
  lines w2: -405.32,-175.83 -405.32,175.83 cw(c-395.48,175.82) -395.47,185.67 395.87,185.67 cw(c395.67,176.02) 405.32,176.22 405.32,-175.83 cw(c395.48,-175.82) 395.47,-185.67 -395.47,-185.67 cw(c-395.48,-175.82) -405.32,-175.83
  lines w6: -405.35,195.51 405.32,195.51 cw(c405.32,185.67) 415.16,185.67 415.16,-185.67 cw(c405.32,-185.67) 405.32,-195.51 -405.32,-195.51 cw(c-405.33,-185.67) -415.16,-186.06 -415.16,185.67 cw(c-405.32,185.67) -405.32,195.51
Mechanical 16:
  rectangle: -281.89,195.51 -268.11,276.22
  rectangle: -231.89,195.51 -218.11,276.22
  rectangle: -181.89,195.51 -168.11,276.22
  rectangle: -131.89,195.51 -118.11,276.22
  rectangle: -81.89,195.51 -68.11,276.22
  rectangle: -31.89,195.51 -18.11,276.22
  rectangle: 18.11,195.51 31.89,276.22
  rectangle: 68.11,195.51 81.89,276.22
  rectangle: 118.11,195.51 131.89,276.22
  rectangle: 168.11,195.51 181.89,276.22
  rectangle: 218.11,195.51 231.89,276.22
  rectangle: 268.11,195.51 281.89,276.22
  rectangle: -281.89,-276.22 -268.11,-195.51
  rectangle: -231.89,-276.22 -218.11,-195.51
  rectangle: -181.89,-276.22 -168.11,-195.51
  rectangle: -131.89,-276.22 -118.11,-195.51
  rectangle: -81.89,-276.22 -68.11,-195.51
  rectangle: -31.89,-276.22 -18.11,-195.51
  rectangle: 18.11,-276.22 31.89,-195.51
  rectangle: 68.11,-276.22 81.89,-195.51
  rectangle: 118.11,-276.22 131.89,-195.51
  rectangle: 168.11,-276.22 181.89,-195.51
  rectangle: 218.11,-276.22 231.89,-195.51
  rectangle: 268.11,-276.22 281.89,-195.51
  rectangle: 318.11,195.51 331.89,276.22
  rectangle: 368.11,195.51 381.89,276.22
  rectangle: 318.11,-276.22 331.89,-195.51
  rectangle: 368.11,-276.22 381.89,-195.51
  rectangle: -381.89,195.51 -368.11,276.22
  rectangle: -331.89,195.51 -318.11,276.22
  rectangle: -381.89,-276.22 -368.11,-195.51
  rectangle: -331.89,-276.22 -318.11,-195.51

## SOP64 [mm]
pads (64):
  rect 0.5x2.2 smd: 1(-9,-8.5) 2(-8,-8.5) 3(-7,-8.5) 4(-6,-8.5) 5(-5,-8.5) 6(-4,-8.5) 7(-3,-8.5) 8(-2,-8.5) 9(-1,-8.5) 10(0,-8.5) 11(1,-8.5) 12(2,-8.5) 13(3,-8.5) 14(4,-8.5) 15(5,-8.5) 16(6,-8.5) 17(7,-8.5) 18(8,-8.5) 19(9,-8.5) 33(9,8.5) 34(8,8.5) 35(7,8.5) 36(6,8.5) 37(5,8.5) 38(4,8.5) 39(3,8.5) 40(2,8.5) 41(1,8.5) 42(0,8.5) 43(-1,8.5) 44(-2,8.5) 45(-3,8.5) 46(-4,8.5) 47(-5,8.5) 48(-6,8.5) 49(-7,8.5) 50(-8,8.5) 51(-9,8.5)
  rect 2.2x0.5 smd: 20(11.5,-6) 21(11.5,-5) 22(11.5,-4) 23(11.5,-3) 24(11.5,-2) 25(11.5,-1) 26(11.5,0) 27(11.5,1) 28(11.5,2) 29(11.5,3) 30(11.5,4) 31(11.5,5) 32(11.5,6) 52(-11.5,6) 53(-11.5,5) 54(-11.5,4) 55(-11.5,3) 56(-11.5,2) 57(-11.5,1) 58(-11.5,0) 59(-11.5,-1) 60(-11.5,-2) 61(-11.5,-3) 62(-11.5,-4) 63(-11.5,-5) 64(-11.5,-6)
Top Overlay:
  circle w0.152: c-9,-6 r0.5
  circle w0.152: c-7,0 r1
  circle w0.152: c7,0 r1
  lines w0.051: -10.5,-6.5 -10,-6.5 ; -10.5,7.5 -10,7 ; -9.5,-7.5 -9.5,-7 ; 10.5,-7.5 10,-7 ; 10.5,7.5 10,7 ; -10,-6.5 -9.5,-7 ; -10,-6.5 -10,7 ; -10,7 10,7 ; -9.5,-7 10,-7 ; 10,-7 10,7
  lines w0.152: -10.5,-6.5 -9.5,-7.5 ; -10.5,6.581 -10.5,7.5 -9.566,7.5 ; 9.55,-7.5 10.5,-7.5 10.5,-6.47 ; 9.566,7.5 10.5,7.5 10.5,6.597
Mechanical 16:
  rectangle: -9.25,7.55 -8.75,9.6
  rectangle: -8.25,7.55 -7.75,9.6
  rectangle: -7.25,7.55 -6.75,9.6
  rectangle: -6.25,7.55 -5.75,9.6
  rectangle: -5.25,7.55 -4.75,9.6
  rectangle: -4.25,7.55 -3.75,9.6
  rectangle: -3.25,7.55 -2.75,9.6
  rectangle: -2.25,7.55 -1.75,9.6
  rectangle: -1.25,7.55 -0.75,9.6
  rectangle: -0.25,7.55 0.25,9.6
  rectangle: 0.75,7.55 1.25,9.6
  rectangle: 1.75,7.55 2.25,9.6
  rectangle: 2.75,7.55 3.25,9.6
  rectangle: 3.75,7.55 4.25,9.6
  rectangle: 4.75,7.55 5.25,9.6
  rectangle: 5.75,7.55 6.25,9.6
  rectangle: 6.75,7.55 7.25,9.6
  rectangle: 7.75,7.55 8.25,9.6
  rectangle: 8.75,7.55 9.25,9.6
  rectangle: 10.55,5.75 12.6,6.25
  rectangle: 10.55,4.75 12.6,5.25
  rectangle: 10.55,3.75 12.6,4.25
  rectangle: 10.55,2.75 12.6,3.25
  rectangle: 10.55,1.75 12.6,2.25
  rectangle: 10.55,0.75 12.6,1.25
  rectangle: 10.55,-0.25 12.6,0.25
  rectangle: 10.55,-1.25 12.6,-0.75
  rectangle: 10.55,-2.25 12.6,-1.75
  rectangle: 10.55,-3.25 12.6,-2.75
  rectangle: 10.55,-4.25 12.6,-3.75
  rectangle: 10.55,-5.25 12.6,-4.75
  rectangle: 10.55,-6.25 12.6,-5.75
  rectangle: 8.75,-9.6 9.25,-7.55
  rectangle: 7.75,-9.6 8.25,-7.55
  rectangle: 6.75,-9.6 7.25,-7.55
  rectangle: 5.75,-9.6 6.25,-7.55
  rectangle: 4.75,-9.6 5.25,-7.55
  rectangle: 3.75,-9.6 4.25,-7.55
  rectangle: 2.75,-9.6 3.25,-7.55
  rectangle: 1.75,-9.6 2.25,-7.55
  rectangle: 0.75,-9.6 1.25,-7.55
  rectangle: -0.25,-9.6 0.25,-7.55
  rectangle: -1.25,-9.6 -0.75,-7.55
  rectangle: -2.25,-9.6 -1.75,-7.55
  rectangle: -3.25,-9.6 -2.75,-7.55
  rectangle: -4.25,-9.6 -3.75,-7.55
  rectangle: -5.25,-9.6 -4.75,-7.55
  rectangle: -6.25,-9.6 -5.75,-7.55
  rectangle: -7.25,-9.6 -6.75,-7.55
  rectangle: -8.25,-9.6 -7.75,-7.55
  rectangle: -9.25,-9.6 -8.75,-7.55
  rectangle: -12.6,-6.25 -10.55,-5.75
  rectangle: -12.6,-5.25 -10.55,-4.75
  rectangle: -12.6,-4.25 -10.55,-3.75
  rectangle: -12.6,-3.25 -10.55,-2.75
  rectangle: -12.6,-2.25 -10.55,-1.75
  rectangle: -12.6,-1.25 -10.55,-0.75
  rectangle: -12.6,-0.25 -10.55,0.25
  rectangle: -12.6,0.75 -10.55,1.25
  rectangle: -12.6,1.75 -10.55,2.25
  rectangle: -12.6,2.75 -10.55,3.25
  rectangle: -12.6,3.75 -10.55,4.25
  rectangle: -12.6,4.75 -10.55,5.25
  rectangle: -12.6,5.75 -10.55,6.25
  lines w0.152: -10.5,-6.5 -10.5,7.5 10.5,7.5 10.5,-7.5 -9.5,-7.5 -10.5,-6.5

## ZIP20P [mil]
pads (20):
  round 48 hole 32: 1(-400,-50)
  oct 48x48 hole 32: 2(-350,50) 3(-300,-50) 4(-250,50) 5(-200,-50) 6(-150,50) 7(-100,-50) 8(-50,50) 9(0,-50) 10(50,50) 11(100,-50) 12(150,50) 13(200,-50) 14(250,50) 15(300,-50) 16(350,50) 17(400,-50) 18(450,50) 19(500,-50) 20(550,50)
Top Overlay:
  circle w6: c-362.5,-75 r6.25
  lines w6: 600,0 600,12.5 ; -450,-12.5 -425,-100 575,-100 600,-12.5 ; -450,-12.5 -450,12.5 ; -450,-12.5 600,-12.5 ; -450,12.5 -425,100 575,100 600,12.5 ; -450,12.5 600,12.5 ; 600,-12.5 600,12.5